# Altium footprint library SC_DCDC_SIP.PcbLib: 1 footprints
Each footprint in its own frame and in the unit in brackets; x right, y up, seen from the top. Pads: shape width x height; smd on the part's side, far side on the other; paste and mask are expansions set on the pad; w line width, h text height; cw(c..) or ccw(c..) is an arc to the next point about the centre after c.
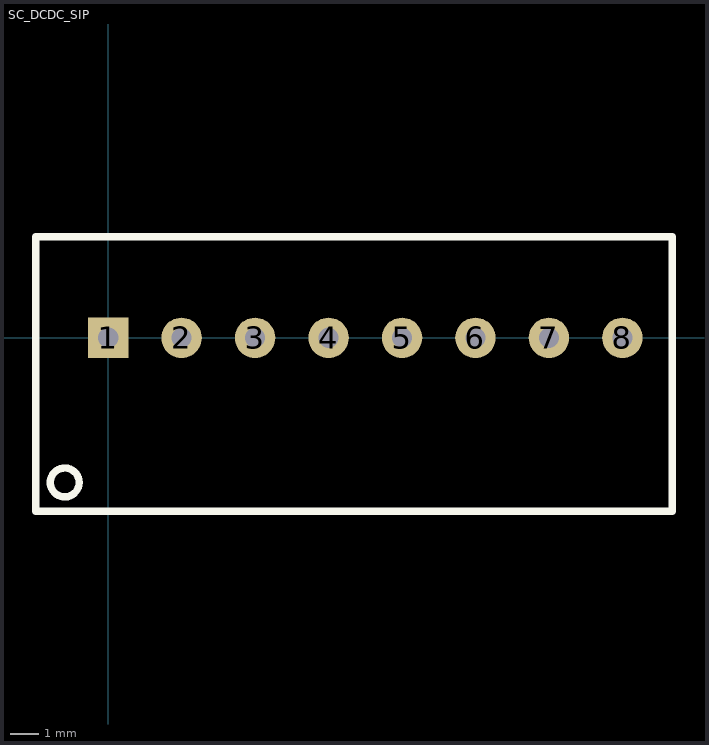
[diagram p0: the footprint, top view; thin cyan lines are the x and y axes]

## SC_DCDC_SIP [mm] "DCDC Converter SIP: Traco or XP Power"
pads (8):
  rect 1.4x1.4 hole 0.7: 1(0,0)
  round 1.4 hole 0.7: 2(2.54,0) 3(5.08,0) 4(7.62,0) 5(10.16,0) 6(12.7,0) 7(15.24,0) 8(17.78,0)
Top Overlay:
  circle w0.254: c-1.5,-5 r0.5
  lines w0.254: -2.5,-6 19.5,-6 19.5,3.5 -2.5,3.5 -2.5,-6
3D body: height 11.1, standoff 0, extent -2.627,-6.127 19.627,3.627